# EAGLE library part MTL-EAGLE-BIBLIOTHEK_MURATA_DCDC_NMA1212DC (library Piezoverstärker_v3.0)
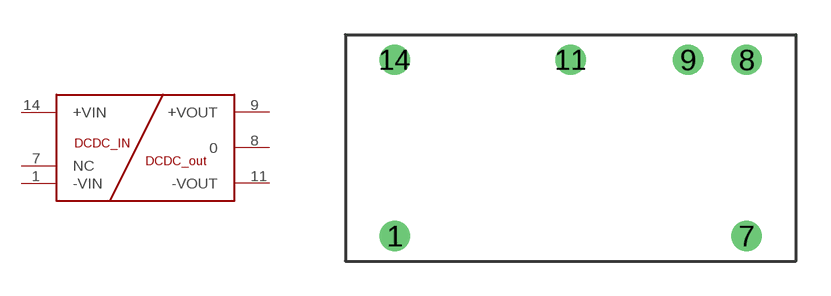
[diagram p2: symbol with the pads of MTL-EAGLE-BIBLIOTHEK_MURRATA_NMA_DCDC; footprint MTL-EAGLE-BIBLIOTHEK_MURRATA_NMA_DCDC]

Designator prefix -

## MTL-EAGLE-BIBLIOTHEK_MURATA_DCDC_NMA1212DC  [MTL-EAGLE-BIBLIOTHEK_MURRATA_NMA_DCDC]
1  -VIN
7  NC
8  0
9  +VOUT
11  -VOUT
14  +VIN

## Footprint MTL-EAGLE-BIBLIOTHEK_MURRATA_NMA_DCDC (pad centres in mm)
drill 0.8: 1 -7.62,-3.81; 7 7.62,-3.81; 8 7.62,3.81; 9 5.08,3.81; 11 0,3.81; 14 -7.62,3.81